# Altium integrated library Analog Devices MEMS Inertial Sensors.IntLib: 109 symbols (part 1 of 6)
Pins are listed as number, name and electrical type; pins without a type are passive.

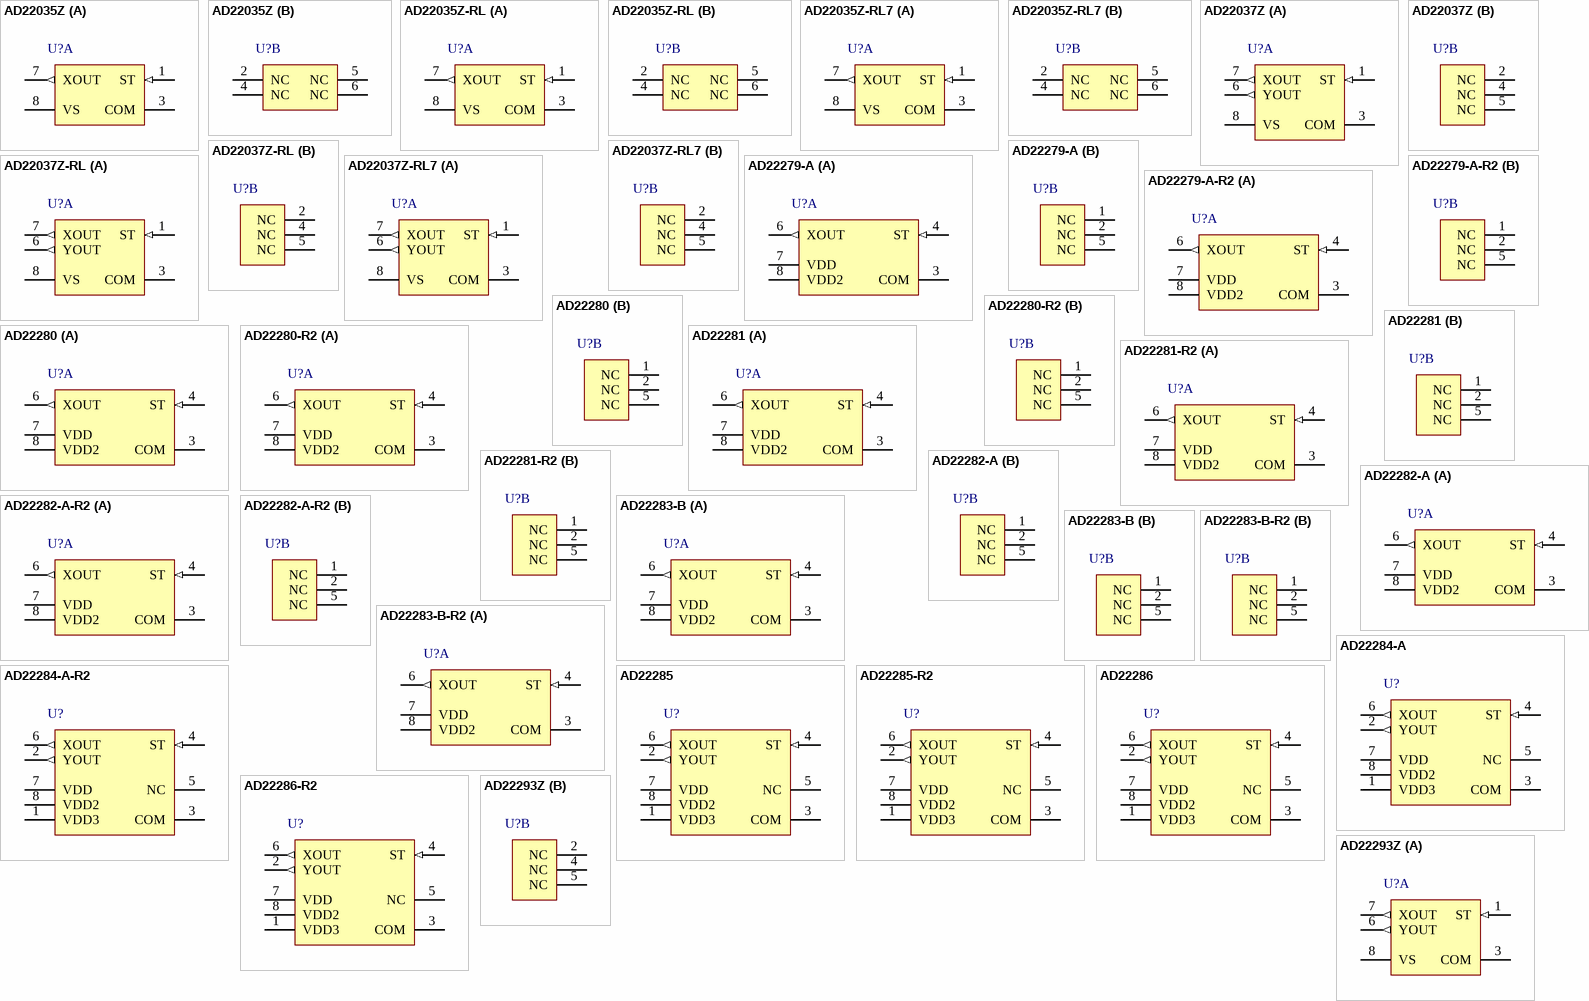
[diagram p0: symbols AD22035Z to AD22293Z]

## AD22035Z
designator U?
Precision +/-18 g Single-Axis iMEMS(R) Accelerometer with Analog Output, 2.5 KHz BW, Industrial, 8-pin LCC, Tube; Manufacturer: Analog Devices; PartNumber: AD22035Z; # of Axes: 1; -3dB Bandwidth: 2.5 KHz; Automotive Qualified: Yes; Sensitivity: 100 mV/g; Supply Current: 700 uA; Voltage Supply (V): 3 to 6; DatasheetVersion: Rev. D; PackageVersion: 05-21-2010-D, 05/2010; PackageReference: E-8-1; PackageDescription: 8-Pin Ceramic Leadless Chip Carrier, 5 x 5 mm Body, 1.27 mm Pitch; Supplier 1: Digi-Key; Supplier Part Number 1: AD22035Z-ND; Supplier 2: Newark; Supplier Part Number 2: 47T4693; Supplier 3: Mouser; Supplier Part Number 3: 584-AD22035Z; Output Type: Analog; Packing: Tube; Mounting Technology: Surface Mount; ComponentLink1Description: Manufacturer URL; ComponentLink1URL: http://www.analog.com/en/index.html; ComponentLink2Description: Datasheet; ComponentLink2URL: http://www.analog.com/static/imported-files/data_sheets/ADXL103_203.pdf; ComponentLink3Description: Package Specification; ComponentLink3URL: http:/www.analog.com/static/imported-files/packages/PKG_PDF/LCC(E)/E_8_1.pdf; ComponentLink4Description: Product URL; ComponentLink4URL: http://www.analog.com/en/mems-sensors/mems-inertial-sensors/adxl103/products/product.html
footprint ADI-E-8-1_V (LCC, 8-Leads, Body 5x5mm, Pitch 1.27mm)
part A pins: 1 ST (in) "Self Test", 3 COM (power) "Common", 7 XOUT (out) "X Channel Output", 8 VS (power) "3 V to 6 V"
part B pins: 2 NC "Do Not Connect", 4 NC "Do Not Connect", 5 NC "Do Not Connect", 6 NC "Do Not Connect"

## AD22035Z-RL
designator U?
Precision +/-18 g Single-Axis iMEMS(R) Accelerometer with Analog Output, 2.5 KHz BW, Industrial, 8-pin LCC, Reel; Manufacturer: Analog Devices; PartNumber: AD22035Z-RL; # of Axes: 1; -3dB Bandwidth: 2.5 KHz; Automotive Qualified: Yes; Sensitivity: 100 mV/g; Supply Current: 700 uA; Voltage Supply (V): 3 to 6; DatasheetVersion: Rev. D; PackageVersion: 05-21-2010-D, 05/2010; PackageReference: E-8-1; PackageDescription: 8-Pin Ceramic Leadless Chip Carrier, 5 x 5 mm Body, 1.27 mm Pitch; Supplier 1: Digi-Key; Supplier Part Number 1: AD22035Z-RL-ND; Supplier 2: Mouser; Supplier Part Number 2: 584-AD22035Z-R; Output Type: Analog; Packing: Reel; Mounting Technology: Surface Mount; ComponentLink1Description: Manufacturer URL; ComponentLink1URL: http://www.analog.com/en/index.html; ComponentLink2Description: Datasheet; ComponentLink2URL: http://www.analog.com/static/imported-files/data_sheets/ADXL103_203.pdf; ComponentLink3Description: Package Specification; ComponentLink3URL: http:/www.analog.com/static/imported-files/packages/PKG_PDF/LCC(E)/E_8_1.pdf; ComponentLink4Description: Product URL; ComponentLink4URL: http://www.analog.com/en/mems-sensors/mems-inertial-sensors/adxl103/products/product.html
footprint ADI-E-8-1_V (LCC, 8-Leads, Body 5x5mm, Pitch 1.27mm)
part A pins: 1 ST (in) "Self Test", 3 COM (power) "Common", 7 XOUT (out) "X Channel Output", 8 VS (power) "3 V to 6 V"
part B pins: 2 NC "Do Not Connect", 4 NC "Do Not Connect", 5 NC "Do Not Connect", 6 NC "Do Not Connect"

## AD22035Z-RL7
designator U?
Precision +/-18 g Single-Axis iMEMS(R) Accelerometer with Analog Output, 2.5 KHz BW, Industrial, 8-pin LCC, Reel; Manufacturer: Analog Devices; PartNumber: AD22035Z-RL7; # of Axes: 1; -3dB Bandwidth: 2.5 KHz; Automotive Qualified: Yes; Sensitivity: 100 mV/g; Supply Current: 700 uA; Voltage Supply (V): 3 to 6; DatasheetVersion: Rev. D; PackageVersion: 05-21-2010-D, 05/2010; PackageReference: E-8-1; PackageDescription: 8-Pin Ceramic Leadless Chip Carrier, 5 x 5 mm Body, 1.27 mm Pitch; Supplier 1: Digi-Key; Supplier Part Number 1: AD22035Z-RL7-ND; Supplier 2: Mouser; Supplier Part Number 2: 584-AD22035Z-R7; Output Type: Analog; Packing: Reel; Mounting Technology: Surface Mount; ComponentLink1Description: Manufacturer URL; ComponentLink1URL: http://www.analog.com/en/index.html; ComponentLink2Description: Datasheet; ComponentLink2URL: http://www.analog.com/static/imported-files/data_sheets/ADXL103_203.pdf; ComponentLink3Description: Package Specification; ComponentLink3URL: http:/www.analog.com/static/imported-files/packages/PKG_PDF/LCC(E)/E_8_1.pdf; ComponentLink4Description: Product URL; ComponentLink4URL: http://www.analog.com/en/mems-sensors/mems-inertial-sensors/adxl103/products/product.html
footprint ADI-E-8-1_V (LCC, 8-Leads, Body 5x5mm, Pitch 1.27mm)
part A pins: 1 ST (in) "Self Test", 3 COM (power) "Common", 7 XOUT (out) "X Channel Output", 8 VS (power) "3 V to 6 V"
part B pins: 2 NC "Do Not Connect", 4 NC "Do Not Connect", 5 NC "Do Not Connect", 6 NC "Do Not Connect"

## AD22037Z
designator U?
Precision +/-18 g Dual-Axis iMEMS(R) Accelerometer with Analog Output, 2.5KHz BW, Industrial, 8-pin LCC, Tube; Manufacturer: Analog Devices; PartNumber: AD22037Z; # of Axes: 2; Sensitivity: 100 mV/g; Supply Current: 700 uA; Voltage Supply (V): 3 to 6; DatasheetVersion: Rev. D; PackageVersion: 05-21-2010-D, 05/2010; PackageReference: E-8-1; PackageDescription: 8-Pin Ceramic Leadless Chip Carrier, 5 x 5 mm Body, 1.27 mm Pitch; Supplier 1: Digi-Key; Supplier Part Number 1: AD22037Z-ND; Supplier 2: Newark; Supplier Part Number 2: 67T0289; Supplier 3: Mouser; Supplier Part Number 3: 584-AD22037Z; -3dB Bandwidth: 2.5 KHz; Output Type: Analog; Packing: Tube; Mounting Technology: Surface Mount; ComponentLink1Description: Manufacturer URL; ComponentLink1URL: http://www.analog.com/en/index.html; ComponentLink2Description: Datasheet; ComponentLink2URL: http://www.analog.com/static/imported-files/data_sheets/ADXL103_203.pdf; ComponentLink3Description: Package Specification; ComponentLink3URL: http:/www.analog.com/static/imported-files/packages/PKG_PDF/LCC(E)/E_8_1.pdf; ComponentLink4Description: Product URL; ComponentLink4URL: http://www.analog.com/en/mems-sensors/mems-inertial-sensors/adxl203/products/product.html
footprint ADI-E-8-1_V (LCC, 8-Leads, Body 5x5mm, Pitch 1.27mm)
part A pins: 1 ST (in) "Self Test", 3 COM (power) "Common", 6 YOUT (out) "Y Channel Output", 7 XOUT (out) "X Channel Output", 8 VS (power) "3 V to 6 V"
part B pins: 2 NC "Do Not Connect", 4 NC "Do Not Connect", 5 NC "Do Not Connect"

## AD22037Z-RL
designator U?
Precision +/-18 g Dual-Axis iMEMS(R) Accelerometer with Analog Output, 2.5 KHz BW, Industrial, 8-pin LCC, Reel; Manufacturer: Analog Devices; PartNumber: AD22037Z-RL; # of Axes: 2; -3dB Bandwidth: 2.5 KHz; Sensitivity: 100 mV/g; Supply Current: 700 uA; Voltage Supply (V): 3 to 6; DatasheetVersion: Rev. D; PackageVersion: 05-21-2010-D, 05/2010; PackageReference: E-8-1; PackageDescription: 8-Pin Ceramic Leadless Chip Carrier, 5 x 5 mm Body, 1.27 mm Pitch; Supplier 1: Digi-Key; Supplier Part Number 1: AD22037Z-RL-ND; Supplier 2: Newark; Supplier Part Number 2: 45T0219; Supplier 3: Mouser; Supplier Part Number 3: 584-AD22037Z-R; Output Type: Analog; Packing: Reel; Mounting Technology: Surface Mount; ComponentLink1Description: Manufacturer URL; ComponentLink1URL: http://www.analog.com/en/index.html; ComponentLink2Description: Datasheet; ComponentLink2URL: http://www.analog.com/static/imported-files/data_sheets/ADXL103_203.pdf; ComponentLink3Description: Package Specification; ComponentLink3URL: http:/www.analog.com/static/imported-files/packages/PKG_PDF/LCC(E)/E_8_1.pdf; ComponentLink4Description: Product URL; ComponentLink4URL: http://www.analog.com/en/mems-sensors/mems-inertial-sensors/adxl203/products/product.html
footprint ADI-E-8-1_V (LCC, 8-Leads, Body 5x5mm, Pitch 1.27mm)
part A pins: 1 ST (in) "Self Test", 3 COM (power) "Common", 6 YOUT (out) "Y Channel Output", 7 XOUT (out) "X Channel Output", 8 VS (power) "3 V to 6 V"
part B pins: 2 NC "Do Not Connect", 4 NC "Do Not Connect", 5 NC "Do Not Connect"

## AD22037Z-RL7
designator U?
Precision +/-18 g Dual-Axis iMEMS(R) Accelerometer with Analog Output, 2.5 KHz BW, Industrial, 8-pin LCC, Reel; Manufacturer: Analog Devices; PartNumber: AD22037Z-RL7; # of Axes: 2; -3dB Bandwidth: 2.5 KHz; Sensitivity: 100 mV/g; Supply Current: 700 uA; Voltage Supply (V): 3 to 6; DatasheetVersion: Rev. D; PackageVersion: 05-21-2010-D, 05/2010; PackageReference: E-8-1; PackageDescription: 8-Pin Ceramic Leadless Chip Carrier, 5 x 5 mm Body, 1.27 mm Pitch; Supplier 1: Digi-Key; Supplier Part Number 1: AD22037Z-RL7-ND; Supplier 2: Newark; Supplier Part Number 2: 45T0220; Supplier 3: Mouser; Supplier Part Number 3: 584-AD22037Z-R7; Output Type: Analog; Packing: Reel; Mounting Technology: Surface Mount; ComponentLink1Description: Manufacturer URL; ComponentLink1URL: http://www.analog.com/en/index.html; ComponentLink2Description: Datasheet; ComponentLink2URL: http://www.analog.com/static/imported-files/data_sheets/ADXL103_203.pdf; ComponentLink3Description: Package Specification; ComponentLink3URL: http:/www.analog.com/static/imported-files/packages/PKG_PDF/LCC(E)/E_8_1.pdf; ComponentLink4Description: Product URL; ComponentLink4URL: http://www.analog.com/en/mems-sensors/mems-inertial-sensors/adxl203/products/product.html
footprint ADI-E-8-1_V (LCC, 8-Leads, Body 5x5mm, Pitch 1.27mm)
part A pins: 1 ST (in) "Self Test", 3 COM (power) "Common", 6 YOUT (out) "Y Channel Output", 7 XOUT (out) "X Channel Output", 8 VS (power) "3 V to 6 V"
part B pins: 2 NC "Do Not Connect", 4 NC "Do Not Connect", 5 NC "Do Not Connect"

## AD22279-A
designator U?
Single-Axis, High-g, iMEMS(R) Accelerometers with Analog Output, 400 Hz BW, Industrial, 8-pin LCC, Reel; Manufacturer: Analog Devices; PartNumber: AD22279-A; # of Axes: 1; -3dB Bandwidth: 400 Hz; Automotive Qualified: Yes; Sensitivity: 55 mV/g; Supply Current: 1.3 mA; Voltage Supply (V): 4.75 to 5.25; DatasheetVersion: Rev. B; PackageVersion: 05-21-2010-D, 05/2010; PackageReference: E-8-1; PackageDescription: 8-Pin Ceramic Leadless Chip Carrier, 5 x 5 mm Body, 1.27 mm Pitch; Supplier 1: Digi-Key; Supplier Part Number 1: AD22279-A-ND; Supplier 2: Mouser; Supplier Part Number 2: 584-AD22279-A; Output Type: Analog; Packing: Reel; Mounting Technology: Surface Mount; ComponentLink1Description: Manufacturer URL; ComponentLink1URL: http://www.analog.com/en/index.html; ComponentLink2Description: Datasheet; ComponentLink2URL: http://www.analog.com/static/imported-files/data_sheets/ADXL78.pdf; ComponentLink3Description: Package Specification; ComponentLink3URL: http:/www.analog.com/static/imported-files/packages/PKG_PDF/LCC(E)/E_8_1.pdf; ComponentLink4Description: Product URL; ComponentLink4URL: http://www.analog.com/en/mems-sensors/mems-inertial-sensors/adxl78/products/product.html
footprint ADI-E-8-1_V (LCC, 8-Leads, Body 5x5mm, Pitch 1.27mm)
part A pins: 3 COM (power) "Common", 4 ST (in) "Self-Test", 6 XOUT (out) "X Channel Output", 7 VDD (power) "3.5 V to 6 V", 8 VDD2 (power) "3.5 V to 6 V"
part B pins: 1 NC "Do Not Connect", 2 NC "Do Not Connect", 5 NC "Do Not Connect"

## AD22279-A-R2
designator U?
Single-Axis, High-g, iMEMS(R) Accelerometers with Analog Output, 400 Hz BW, Industrial, 8-pin LCC, Reel; Manufacturer: Analog Devices; PartNumber: AD22279-A-R2; # of Axes: 1; -3dB Bandwidth: 400 Hz; Automotive Qualified: Yes; Sensitivity: 55 mV/g; Supply Current: 1.3 mA; Voltage Supply (V): 4.75 to 5.25; DatasheetVersion: Rev. B; PackageVersion: 05-21-2010-D, 05/2010; PackageReference: E-8-1; PackageDescription: 8-Pin Ceramic Leadless Chip Carrier, 5 x 5 mm Body, 1.27 mm Pitch; Supplier 1: Digi-Key; Supplier Part Number 1: AD22279-A-R2TR-ND; Supplier 2: Digi-Key; Supplier Part Number 2: AD22279-A-R2CT-ND; Supplier 3: Digi-Key; Supplier Part Number 3: AD22279-A-R2DKR-ND; Supplier 4: Farnell; Supplier Part Number 4: 2112637; Supplier 5: Newark; Supplier Part Number 5: 19M8800; Supplier 6: Mouser; Supplier Part Number 6: 584-AD22279-A-R2; Output Type: Analog; Packing: Reel; Mounting Technology: Surface Mount; ComponentLink1Description: Manufacturer URL; ComponentLink1URL: http://www.analog.com/en/index.html; ComponentLink2Description: Datasheet; ComponentLink2URL: http://www.analog.com/static/imported-files/data_sheets/ADXL78.pdf; ComponentLink3Description: Package Specification; ComponentLink3URL: http:/www.analog.com/static/imported-files/packages/PKG_PDF/LCC(E)/E_8_1.pdf; ComponentLink4Description: Product URL; ComponentLink4URL: http://www.analog.com/en/mems-sensors/mems-inertial-sensors/adxl78/products/product.html
footprint ADI-E-8-1_V (LCC, 8-Leads, Body 5x5mm, Pitch 1.27mm)
part A pins: 3 COM (power) "Common", 4 ST (in) "Self-Test", 6 XOUT (out) "X Channel Output", 7 VDD (power) "3.5 V to 6 V", 8 VDD2 (power) "3.5 V to 6 V"
part B pins: 1 NC "Do Not Connect", 2 NC "Do Not Connect", 5 NC "Do Not Connect"

## AD22280
designator U?
Single-Axis, High-g, iMEMS(R) Accelerometers with Analog Output, 400 Hz BW, Industrial, 8-pin LCC, Reel; Manufacturer: Analog Devices; PartNumber: AD22280; # of Axes: 1; -3dB Bandwidth: 400 Hz; Automotive Qualified: Yes; Sensitivity: 38 mV/g; Supply Current: 1.3 mA; Voltage Supply (V): 4.75 to 5.25; DatasheetVersion: Rev. B; PackageVersion: 05-21-2010-D, 05/2010; PackageReference: E-8-1; PackageDescription: 8-Pin Ceramic Leadless Chip Carrier, 5 x 5 mm Body, 1.27 mm Pitch; Supplier 1: Digi-Key; Supplier Part Number 1: AD22280-ND; Supplier 2: Mouser; Supplier Part Number 2: 584-AD22280; Output Type: Analog; Packing: Reel; Mounting Technology: Surface Mount; ComponentLink1Description: Manufacturer URL; ComponentLink1URL: http://www.analog.com/en/index.html; ComponentLink2Description: Datasheet; ComponentLink2URL: http://www.analog.com/static/imported-files/data_sheets/ADXL78.pdf; ComponentLink3Description: Package Specification; ComponentLink3URL: http:/www.analog.com/static/imported-files/packages/PKG_PDF/LCC(E)/E_8_1.pdf; ComponentLink4Description: Product URL; ComponentLink4URL: http://www.analog.com/en/mems-sensors/mems-inertial-sensors/adxl78/products/product.html
footprint ADI-E-8-1_V (LCC, 8-Leads, Body 5x5mm, Pitch 1.27mm)
part A pins: 3 COM (power) "Common", 4 ST (in) "Self-Test", 6 XOUT (out) "X Channel Output", 7 VDD (power) "3.5 V to 6 V", 8 VDD2 (power) "3.5 V to 6 V"
part B pins: 1 NC "Do Not Connect", 2 NC "Do Not Connect", 5 NC "Do Not Connect"

## AD22280-R2
designator U?
Single-Axis, High-g, iMEMS(R) Accelerometers with Analog Output, 400 Hz BW, Industrial, 8-pin LCC, Reel; Manufacturer: Analog Devices; PartNumber: AD22280-R2; # of Axes: 1; -3dB Bandwidth: 400 Hz; Automotive Qualified: Yes; Sensitivity: 38 mV/g; Supply Current: 1.3 mA; Voltage Supply (V): 4.75 to 5.25; DatasheetVersion: Rev. B; PackageVersion: 05-21-2010-D, 05/2010; PackageReference: E-8-1; PackageDescription: 8-Pin Ceramic Leadless Chip Carrier, 5 x 5 mm Body, 1.27 mm Pitch; Supplier 1: Digi-Key; Supplier Part Number 1: AD22280-R2TR-ND; Supplier 2: Digi-Key; Supplier Part Number 2: AD22280-R2CT-ND; Supplier 3: Digi-Key; Supplier Part Number 3: AD22280-R2DKR-ND; Supplier 4: Farnell; Supplier Part Number 4: 1319363; Supplier 5: Newark; Supplier Part Number 5: 19M8801; Supplier 6: Mouser; Supplier Part Number 6: 584-AD22280-R2; Output Type: Analog; Packing: Reel; Mounting Technology: Surface Mount; ComponentLink1Description: Manufacturer URL; ComponentLink1URL: http://www.analog.com/en/index.html; ComponentLink2Description: Datasheet; ComponentLink2URL: http://www.analog.com/static/imported-files/data_sheets/ADXL78.pdf; ComponentLink3Description: Package Specification; ComponentLink3URL: http:/www.analog.com/static/imported-files/packages/PKG_PDF/LCC(E)/E_8_1.pdf; ComponentLink4Description: Product URL; ComponentLink4URL: http://www.analog.com/en/mems-sensors/mems-inertial-sensors/adxl78/products/product.html
footprint ADI-E-8-1_V (LCC, 8-Leads, Body 5x5mm, Pitch 1.27mm)
part A pins: 3 COM (power) "Common", 4 ST (in) "Self-Test", 6 XOUT (out) "X Channel Output", 7 VDD (power) "3.5 V to 6 V", 8 VDD2 (power) "3.5 V to 6 V"
part B pins: 1 NC "Do Not Connect", 2 NC "Do Not Connect", 5 NC "Do Not Connect"

## AD22281
designator U?
Single-Axis, High-g, iMEMS(R) Accelerometers with Analog Output, 400 Hz BW, Industrial, 8-pin LCC, Reel; Manufacturer: Analog Devices; PartNumber: AD22281; # of Axes: 1; -3dB Bandwidth: 400 Hz; Automotive Qualified: Yes; Sensitivity: 27 mV/g; Supply Current: 1.3 mA; Voltage Supply (V): 4.75 to 5.25; DatasheetVersion: Rev. B; PackageVersion: 05-21-2010-D, 05/2010; PackageReference: E-8-1; PackageDescription: 8-Pin Ceramic Leadless Chip Carrier, 5 x 5 mm Body, 1.27 mm Pitch; Supplier 1: Digi-Key; Supplier Part Number 1: AD22281-ND; Supplier 2: Mouser; Supplier Part Number 2: 584-AD22281; Output Type: Analog; Packing: Reel; Mounting Technology: Surface Mount; ComponentLink1Description: Manufacturer URL; ComponentLink1URL: http://www.analog.com/en/index.html; ComponentLink2Description: Datasheet; ComponentLink2URL: http://www.analog.com/static/imported-files/data_sheets/ADXL78.pdf; ComponentLink3Description: Package Specification; ComponentLink3URL: http:/www.analog.com/static/imported-files/packages/PKG_PDF/LCC(E)/E_8_1.pdf; ComponentLink4Description: Product URL; ComponentLink4URL: http://www.analog.com/en/mems-sensors/mems-inertial-sensors/adxl78/products/product.html
footprint ADI-E-8-1_V (LCC, 8-Leads, Body 5x5mm, Pitch 1.27mm)
part A pins: 3 COM (power) "Common", 4 ST (in) "Self-Test", 6 XOUT (out) "X Channel Output", 7 VDD (power) "3.5 V to 6 V", 8 VDD2 (power) "3.5 V to 6 V"
part B pins: 1 NC "Do Not Connect", 2 NC "Do Not Connect", 5 NC "Do Not Connect"

## AD22281-R2
designator U?
Single-Axis, High-g, iMEMS(R) Accelerometers with Analog Output, 400 Hz BW, Industrial, 8-pin LCC, Reel; Manufacturer: Analog Devices; PartNumber: AD22281-R2; # of Axes: 1; -3dB Bandwidth: 400 Hz; Automotive Qualified: Yes; Sensitivity: 27 mV/g; Supply Current: 1.3 mA; Voltage Supply (V): 4.75 to 5.25; DatasheetVersion: Rev. B; PackageVersion: 05-21-2010-D, 05/2010; PackageReference: E-8-1; PackageDescription: 8-Pin Ceramic Leadless Chip Carrier, 5 x 5 mm Body, 1.27 mm Pitch; Supplier 1: Digi-Key; Supplier Part Number 1: AD22281-R2TR-ND; Supplier 2: Digi-Key; Supplier Part Number 2: AD22281-R2CT-ND; Supplier 3: Digi-Key; Supplier Part Number 3: AD22281-R2DKR-ND; Supplier 4: Newark; Supplier Part Number 4: 59K3516; Supplier 5: Newark; Supplier Part Number 5: 19M8802; Supplier 6: Mouser; Supplier Part Number 6: 584-AD22281-R2; Output Type: Analog; Packing: Reel; Mounting Technology: Surface Mount; ComponentLink1Description: Manufacturer URL; ComponentLink1URL: http://www.analog.com/en/index.html; ComponentLink2Description: Datasheet; ComponentLink2URL: http://www.analog.com/static/imported-files/data_sheets/ADXL78.pdf; ComponentLink3Description: Package Specification; ComponentLink3URL: http:/www.analog.com/static/imported-files/packages/PKG_PDF/LCC(E)/E_8_1.pdf; ComponentLink4Description: Product URL; ComponentLink4URL: http://www.analog.com/en/mems-sensors/mems-inertial-sensors/adxl78/products/product.html
footprint ADI-E-8-1_V (LCC, 8-Leads, Body 5x5mm, Pitch 1.27mm)
part A pins: 3 COM (power) "Common", 4 ST (in) "Self-Test", 6 XOUT (out) "X Channel Output", 7 VDD (power) "3.5 V to 6 V", 8 VDD2 (power) "3.5 V to 6 V"
part B pins: 1 NC "Do Not Connect", 2 NC "Do Not Connect", 5 NC "Do Not Connect"

## AD22282-A
designator U?
Single-Axis, High-g, iMEMS(R) Accelerometer with Analog Output, 400 Hz BW, Industrial, 8-pin LCC, Reel; Manufacturer: Analog Devices; PartNumber: AD22282-A; # of Axes: 1; -3dB Bandwidth: 400 Hz; Automotive Qualified: Yes; Sensitivity: 18 mV/g; Supply Current: 1.5 mA; Voltage Supply (V): 4.75 to 5.25; DatasheetVersion: Rev. B; PackageVersion: 05-21-2010-D, 05/2010; PackageReference: E-8-1; PackageDescription: 8-Pin Ceramic Leadless Chip Carrier, 5 x 5 mm Body, 1.27 mm Pitch; Supplier 1: Digi-Key; Supplier Part Number 1: AD22282-A-ND; Supplier 2: Mouser; Supplier Part Number 2: 584-AD22282-A; Output Type: Analog; Packing: Reel; Mounting Technology: Surface Mount; ComponentLink1Description: Manufacturer URL; ComponentLink1URL: http://www.analog.com/en/index.html; ComponentLink2Description: Datasheet; ComponentLink2URL: http://www.analog.com/static/imported-files/data_sheets/ADXL193.pdf; ComponentLink3Description: Package Specification; ComponentLink3URL: http:/www.analog.com/static/imported-files/packages/PKG_PDF/LCC(E)/E_8_1.pdf; ComponentLink4Description: Product URL; ComponentLink4URL: http://www.analog.com/en/mems-sensors/mems-inertial-sensors/adxl193/products/product.html
footprint ADI-E-8-1_V (LCC, 8-Leads, Body 5x5mm, Pitch 1.27mm)
part A pins: 3 COM (power) "Common", 4 ST (in) "Self-Test", 6 XOUT (out) "X Channel Output", 7 VDD (power) "3.5 V to 6 V", 8 VDD2 (power) "3.5 V to 6 V"
part B pins: 1 NC "Do Not Connect", 2 NC "Do Not Connect", 5 NC "Do Not Connect"

## AD22282-A-R2
designator U?
Single-Axis, High-g, iMEMS(R) Accelerometer with Analog Output, 400 Hz BW, Industrial, 8-pin LCC, Reel; Manufacturer: Analog Devices; PartNumber: AD22282-A-R2; # of Axes: 1; -3dB Bandwidth: 400 Hz; Automotive Qualified: Yes; Sensitivity: 18 mV/g; Supply Current: 1.5 mA; Voltage Supply (V): 4.75 to 5.25; DatasheetVersion: Rev. B; PackageVersion: 05-21-2010-D, 05/2010; PackageReference: E-8-1; PackageDescription: 8-Pin Ceramic Leadless Chip Carrier, 5 x 5 mm Body, 1.27 mm Pitch; Supplier 1: Digi-Key; Supplier Part Number 1: AD22282-A-R2TR-ND; Supplier 2: Digi-Key; Supplier Part Number 2: AD22282-A-R2CT-ND; Supplier 3: Digi-Key; Supplier Part Number 3: AD22282-A-R2DKR-ND; Supplier 4: Newark; Supplier Part Number 4: 59K3517; Supplier 5: Newark; Supplier Part Number 5: 19M8803; Supplier 6: Mouser; Supplier Part Number 6: 584-AD22282-A-R2; Output Type: Analog; Packing: Reel; Mounting Technology: Surface Mount; ComponentLink1Description: Manufacturer URL; ComponentLink1URL: http://www.analog.com/en/index.html; ComponentLink2Description: Datasheet; ComponentLink2URL: http://www.analog.com/static/imported-files/data_sheets/ADXL193.pdf; ComponentLink3Description: Package Specification; ComponentLink3URL: http:/www.analog.com/static/imported-files/packages/PKG_PDF/LCC(E)/E_8_1.pdf; ComponentLink4Description: Product URL; ComponentLink4URL: http://www.analog.com/en/mems-sensors/mems-inertial-sensors/adxl193/products/product.html
footprint ADI-E-8-1_V (LCC, 8-Leads, Body 5x5mm, Pitch 1.27mm)
part A pins: 3 COM (power) "Common", 4 ST (in) "Self-Test", 6 XOUT (out) "X Channel Output", 7 VDD (power) "3.5 V to 6 V", 8 VDD2 (power) "3.5 V to 6 V"
part B pins: 1 NC "Do Not Connect", 2 NC "Do Not Connect", 5 NC "Do Not Connect"

## AD22283-B
designator U?
Single-Axis, High-g, iMEMS(R) Accelerometer with Analog Output, 400 Hz BW, Industrial, 8-pin LCC, Reel; Manufacturer: Analog Devices; PartNumber: AD22283-B; # of Axes: 1; -3dB Bandwidth: 400 Hz; Automotive Qualified: Yes; Sensitivity: 8 mV/g; Supply Current: 1.5 mA; Voltage Supply (V): 4.75 to 5.25; DatasheetVersion: Rev. B; PackageVersion: 05-21-2010-D, 05/2010; PackageReference: E-8-1; PackageDescription: 8-Pin Ceramic Leadless Chip Carrier, 5 x 5 mm Body, 1.27 mm Pitch; Supplier 1: Digi-Key; Supplier Part Number 1: AD22283-B-ND; Supplier 2: Mouser; Supplier Part Number 2: 584-AD22283-B; Output Type: Analog; Packing: Reel; Mounting Technology: Surface Mount; ComponentLink1Description: Manufacturer URL; ComponentLink1URL: http://www.analog.com/en/index.html; ComponentLink2Description: Datasheet; ComponentLink2URL: http://www.analog.com/static/imported-files/data_sheets/ADXL193.pdf; ComponentLink3Description: Package Specification; ComponentLink3URL: http:/www.analog.com/static/imported-files/packages/PKG_PDF/LCC(E)/E_8_1.pdf; ComponentLink4Description: Product URL; ComponentLink4URL: http://www.analog.com/en/mems-sensors/mems-inertial-sensors/adxl193/products/product.html
footprint ADI-E-8-1_V (LCC, 8-Leads, Body 5x5mm, Pitch 1.27mm)
part A pins: 3 COM (power) "Common", 4 ST (in) "Self-Test", 6 XOUT (out) "X Channel Output", 7 VDD (power) "3.5 V to 6 V", 8 VDD2 (power) "3.5 V to 6 V"
part B pins: 1 NC "Do Not Connect", 2 NC "Do Not Connect", 5 NC "Do Not Connect"

## AD22283-B-R2
designator U?
Single-Axis, High-g, iMEMS(R) Accelerometer with Analog Output, 400 Hz BW, Industrial, 8-pin LCC, Reel; Manufacturer: Analog Devices; PartNumber: AD22283-B-R2; # of Axes: 1; -3dB Bandwidth: 400 Hz; Automotive Qualified: Yes; Sensitivity: 8 mV/g; Supply Current: 1.5 mA; Voltage Supply (V): 4.75 to 5.25; DatasheetVersion: Rev. B; PackageVersion: 05-21-2010-D, 05/2010; PackageReference: E-8-1; PackageDescription: 8-Pin Ceramic Leadless Chip Carrier, 5 x 5 mm Body, 1.27 mm Pitch; Supplier 1: Digi-Key; Supplier Part Number 1: AD22283-B-R2TR-ND; Supplier 2: Digi-Key; Supplier Part Number 2: AD22283-B-R2CT-ND; Supplier 3: Digi-Key; Supplier Part Number 3: AD22283-B-R2DKR-ND; Supplier 4: Farnell; Supplier Part Number 4: 2102498; Supplier 5: Newark; Supplier Part Number 5: 19M8804; Supplier 6: Mouser; Supplier Part Number 6: 584-AD22283-B-R2; Output Type: Analog; Packing: Reel; Mounting Technology: Surface Mount; ComponentLink1Description: Manufacturer URL; ComponentLink1URL: http://www.analog.com/en/index.html; ComponentLink2Description: Datasheet; ComponentLink2URL: http://www.analog.com/static/imported-files/data_sheets/ADXL193.pdf; ComponentLink3Description: Package Specification; ComponentLink3URL: http:/www.analog.com/static/imported-files/packages/PKG_PDF/LCC(E)/E_8_1.pdf; ComponentLink4Description: Product URL; ComponentLink4URL: http://www.analog.com/en/mems-sensors/mems-inertial-sensors/adxl193/products/product.html
footprint ADI-E-8-1_V (LCC, 8-Leads, Body 5x5mm, Pitch 1.27mm)
part A pins: 3 COM (power) "Common", 4 ST (in) "Self-Test", 6 XOUT (out) "X Channel Output", 7 VDD (power) "3.5 V to 6 V", 8 VDD2 (power) "3.5 V to 6 V"
part B pins: 1 NC "Do Not Connect", 2 NC "Do Not Connect", 5 NC "Do Not Connect"

## AD22284-A
designator U?
Small, Low Power, Dual-Axis High-g, iMEMS(R) Accelerometer with Analog Output, 400 Hz BW, Industrial, 8-pin LCC, Reel; Manufacturer: Analog Devices; PartNumber: AD22284-A; # of Axes: 2; -3dB Bandwidth: 400 Hz; Automotive Qualified: Yes; Sensitivity: 55 mV/g; Supply Current: 2.2 mA; Voltage Supply (V): 4.75 to 5.25; DatasheetVersion: Rev. B; PackageVersion: 05-21-2010-D, 05/2010; PackageReference: E-8-1; PackageDescription: 8-Pin Ceramic Leadless Chip Carrier, 5 x 5 mm Body, 1.27 mm Pitch; Supplier 1: Mouser; Supplier Part Number 1: N/A; Output Type: Analog; Packing: Reel; Mounting Technology: Surface Mount; ComponentLink1Description: Manufacturer URL; ComponentLink1URL: http://www.analog.com/en/index.html; ComponentLink2Description: Datasheet; ComponentLink2URL: http://www.analog.com/static/imported-files/data_sheets/ADXL278.pdf; ComponentLink3Description: Package Specification; ComponentLink3URL: http:/www.analog.com/static/imported-files/packages/PKG_PDF/LCC(E)/E_8_1.pdf; ComponentLink4Description: Product URL; ComponentLink4URL: http://www.analog.com/en/mems-sensors/mems-inertial-sensors/adxl278/products/product.html
footprint ADI-E-8-1_V (LCC, 8-Leads, Body 5x5mm, Pitch 1.27mm)
pins: 1 VDD3 (power) "3.5 V to 6 V", 2 YOUT (out) "Y Channel Output", 3 COM (power) "Common", 4 ST (in) "Self-Test", 5 NC "Do Not Connect", 6 XOUT (out) "X Channel Output", 7 VDD (power) "3.5 V to 6 V", 8 VDD2 (power) "3.5 V to 6 V"

## AD22284-A-R2
designator U?
Small, Low Power, Dual-Axis High-g, iMEMS(R) Accelerometer with Analog Output, 400 Hz BW, Industrial, 8-pin LCC, Reel; Manufacturer: Analog Devices; PartNumber: AD22284-A-R2; # of Axes: 2; -3dB Bandwidth: 400 Hz; Automotive Qualified: Yes; Sensitivity: 55 mV/g; Supply Current: 2.2 mA; Voltage Supply (V): 4.75 to 5.25; DatasheetVersion: Rev. B; PackageVersion: 05-21-2010-D, 05/2010; PackageReference: E-8-1; PackageDescription: 8-Pin Ceramic Leadless Chip Carrier, 5 x 5 mm Body, 1.27 mm Pitch; Supplier 1: Digi-Key; Supplier Part Number 1: AD22284-A-R2TR-ND; Supplier 2: Digi-Key; Supplier Part Number 2: AD22284-A-R2CT-ND; Supplier 3: Digi-Key; Supplier Part Number 3: AD22284-A-R2DKR-ND; Supplier 4: Farnell; Supplier Part Number 4: 2301484; Supplier 5: Newark; Supplier Part Number 5: 19M8805; Supplier 6: Mouser; Supplier Part Number 6: 584-AD22284-A-R2; Output Type: Analog; Packing: Reel; Mounting Technology: Surface Mount; ComponentLink1Description: Manufacturer URL; ComponentLink1URL: http://www.analog.com/en/index.html; ComponentLink2Description: Datasheet; ComponentLink2URL: http://www.analog.com/static/imported-files/data_sheets/ADXL278.pdf; ComponentLink3Description: Package Specification; ComponentLink3URL: http:/www.analog.com/static/imported-files/packages/PKG_PDF/LCC(E)/E_8_1.pdf; ComponentLink4Description: Product URL; ComponentLink4URL: http://www.analog.com/en/mems-sensors/mems-inertial-sensors/adxl278/products/product.html
footprint ADI-E-8-1_V (LCC, 8-Leads, Body 5x5mm, Pitch 1.27mm)
pins: 1 VDD3 (power) "3.5 V to 6 V", 2 YOUT (out) "Y Channel Output", 3 COM (power) "Common", 4 ST (in) "Self-Test", 5 NC "Do Not Connect", 6 XOUT (out) "X Channel Output", 7 VDD (power) "3.5 V to 6 V", 8 VDD2 (power) "3.5 V to 6 V"

## AD22285
designator U?
Small, Low Power, Dual-Axis High-g, iMEMS(R) Accelerometer with Analog Output, 400 Hz BW, Industrial, 8-pin LCC, Reel; Manufacturer: Analog Devices; PartNumber: AD22285; # of Axes: 2; -3dB Bandwidth: 400 Hz; Automotive Qualified: Yes; Sensitivity: 38 mV/g; Supply Current: 2.2 mA; Voltage Supply (V): 4.75 to 5.25; DatasheetVersion: Rev. B; PackageVersion: 05-21-2010-D, 05/2010; PackageReference: E-8-1; PackageDescription: 8-Pin Ceramic Leadless Chip Carrier, 5 x 5 mm Body, 1.27 mm Pitch; Supplier 1: Digi-Key; Supplier Part Number 1: AD22285-ND; Supplier 2: Mouser; Supplier Part Number 2: 584-AD22285; Output Type: Analog; Packing: Reel; Mounting Technology: Surface Mount; ComponentLink1Description: Manufacturer URL; ComponentLink1URL: http://www.analog.com/en/index.html; ComponentLink2Description: Datasheet; ComponentLink2URL: http://www.analog.com/static/imported-files/data_sheets/ADXL278.pdf; ComponentLink3Description: Package Specification; ComponentLink3URL: http:/www.analog.com/static/imported-files/packages/PKG_PDF/LCC(E)/E_8_1.pdf; ComponentLink4Description: Product URL; ComponentLink4URL: http://www.analog.com/en/mems-sensors/mems-inertial-sensors/adxl278/products/product.html
footprint ADI-E-8-1_V (LCC, 8-Leads, Body 5x5mm, Pitch 1.27mm)
pins: 1 VDD3 (power) "3.5 V to 6 V", 2 YOUT (out) "Y Channel Output", 3 COM (power) "Common", 4 ST (in) "Self-Test", 5 NC "Do Not Connect", 6 XOUT (out) "X Channel Output", 7 VDD (power) "3.5 V to 6 V", 8 VDD2 (power) "3.5 V to 6 V"

## AD22285-R2
designator U?
Small, Low Power, Dual-Axis High-g, iMEMS(R) Accelerometer with Analog Output, 400 Hz BW, Industrial, 8-pin LCC, Reel; Manufacturer: Analog Devices; PartNumber: AD22285-R2; # of Axes: 2; -3dB Bandwidth: 400 Hz; Automotive Qualified: Yes; Sensitivity: 38 mV/g; Supply Current: 2.2 mA; Voltage Supply (V): 4.75 to 5.25; DatasheetVersion: Rev. B; PackageVersion: 05-21-2010-D, 05/2010; PackageReference: E-8-1; PackageDescription: 8-Pin Ceramic Leadless Chip Carrier, 5 x 5 mm Body, 1.27 mm Pitch; Supplier 1: Digi-Key; Supplier Part Number 1: AD22285-R2TR-ND; Supplier 2: Digi-Key; Supplier Part Number 2: AD22285-R2CT-ND; Supplier 3: Digi-Key; Supplier Part Number 3: AD22285-R2DKR-ND; Supplier 4: Farnell; Supplier Part Number 4: 1661083; Supplier 5: Newark; Supplier Part Number 5: 19M8806; Supplier 6: Newark; Supplier Part Number 6: 59K3520; Supplier 7: Mouser; Supplier Part Number 7: 584-AD22285-R2; Output Type: Analog; Packing: Reel; Mounting Technology: Surface Mount; ComponentLink1Description: Manufacturer URL; ComponentLink1URL: http://www.analog.com/en/index.html; ComponentLink2Description: Datasheet; ComponentLink2URL: http://www.analog.com/static/imported-files/data_sheets/ADXL278.pdf; ComponentLink3Description: Package Specification; ComponentLink3URL: http:/www.analog.com/static/imported-files/packages/PKG_PDF/LCC(E)/E_8_1.pdf; ComponentLink4Description: Product URL; ComponentLink4URL: http://www.analog.com/en/mems-sensors/mems-inertial-sensors/adxl278/products/product.html
footprint ADI-E-8-1_V (LCC, 8-Leads, Body 5x5mm, Pitch 1.27mm)
pins: 1 VDD3 (power) "3.5 V to 6 V", 2 YOUT (out) "Y Channel Output", 3 COM (power) "Common", 4 ST (in) "Self-Test", 5 NC "Do Not Connect", 6 XOUT (out) "X Channel Output", 7 VDD (power) "3.5 V to 6 V", 8 VDD2 (power) "3.5 V to 6 V"

## AD22286
designator U?
Small, Low Power, Dual-Axis High-g, iMEMS(R) Accelerometer with Analog Output, 400 Hz BW, Industrial, 8-pin LCC, Reel; Manufacturer: Analog Devices; PartNumber: AD22286; # of Axes: 2; -3dB Bandwidth: 400 Hz; Automotive Qualified: Yes; Sensitivity: 27 mV/g; Supply Current: 2.2 mA; Voltage Supply (V): 4.75 to 5.25; DatasheetVersion: Rev. B; PackageVersion: 05-21-2010-D, 05/2010; PackageReference: E-8-1; PackageDescription: 8-Pin Ceramic Leadless Chip Carrier, 5 x 5 mm Body, 1.27 mm Pitch; Supplier 1: Digi-Key; Supplier Part Number 1: AD22286-ND; Supplier 2: Mouser; Supplier Part Number 2: 584-AD22286; Output Type: Analog; Packing: Reel; Mounting Technology: Surface Mount; ComponentLink1Description: Manufacturer URL; ComponentLink1URL: http://www.analog.com/en/index.html; ComponentLink2Description: Datasheet; ComponentLink2URL: http://www.analog.com/static/imported-files/data_sheets/ADXL278.pdf; ComponentLink3Description: Package Specification; ComponentLink3URL: http:/www.analog.com/static/imported-files/packages/PKG_PDF/LCC(E)/E_8_1.pdf; ComponentLink4Description: Product URL; ComponentLink4URL: http://www.analog.com/en/mems-sensors/mems-inertial-sensors/adxl278/products/product.html
footprint ADI-E-8-1_V (LCC, 8-Leads, Body 5x5mm, Pitch 1.27mm)
pins: 1 VDD3 (power) "3.5 V to 6 V", 2 YOUT (out) "Y Channel Output", 3 COM (power) "Common", 4 ST (in) "Self-Test", 5 NC "Do Not Connect", 6 XOUT (out) "X Channel Output", 7 VDD (power) "3.5 V to 6 V", 8 VDD2 (power) "3.5 V to 6 V"

## AD22286-R2
designator U?
Small, Low Power, Dual-Axis High-g, iMEMS(R) Accelerometer with Analog Output, 400 Hz BW, Industrial, 8-pin LCC, Reel; Manufacturer: Analog Devices; PartNumber: AD22286-R2; # of Axes: 2; -3dB Bandwidth: 400 Hz; Automotive Qualified: Yes; Sensitivity: 27 mV/g; Supply Current: 2.2 mA; Voltage Supply (V): 4.75 to 5.25; DatasheetVersion: Rev. B; PackageVersion: 05-21-2010-D, 05/2010; PackageReference: E-8-1; PackageDescription: 8-Pin Ceramic Leadless Chip Carrier, 5 x 5 mm Body, 1.27 mm Pitch; Supplier 1: Digi-Key; Supplier Part Number 1: AD22286-R2TR-ND; Supplier 2: Digi-Key; Supplier Part Number 2: AD22286-R2CT-ND; Supplier 3: Digi-Key; Supplier Part Number 3: AD22286-R2DKR-ND; Supplier 4: Newark; Supplier Part Number 4: 59K3521; Supplier 5: Mouser; Supplier Part Number 5: 584-AD22286-R2; Output Type: Analog; Packing: Reel; Mounting Technology: Surface Mount; ComponentLink1Description: Manufacturer URL; ComponentLink1URL: http://www.analog.com/en/index.html; ComponentLink2Description: Datasheet; ComponentLink2URL: http://www.analog.com/static/imported-files/data_sheets/ADXL278.pdf; ComponentLink3Description: Package Specification; ComponentLink3URL: http:/www.analog.com/static/imported-files/packages/PKG_PDF/LCC(E)/E_8_1.pdf; ComponentLink4Description: Product URL; ComponentLink4URL: http://www.analog.com/en/mems-sensors/mems-inertial-sensors/adxl278/products/product.html
footprint ADI-E-8-1_V (LCC, 8-Leads, Body 5x5mm, Pitch 1.27mm)
pins: 1 VDD3 (power) "3.5 V to 6 V", 2 YOUT (out) "Y Channel Output", 3 COM (power) "Common", 4 ST (in) "Self-Test", 5 NC "Do Not Connect", 6 XOUT (out) "X Channel Output", 7 VDD (power) "3.5 V to 6 V", 8 VDD2 (power) "3.5 V to 6 V"

## AD22293Z
designator U?
Precision +/-5 g Dual-Axis iMEMS(R) Accelerometer with Analog Output, 2.5KHz BW, Industrial, 8-pin LCC, Tube; Manufacturer: Analog Devices; PartNumber: AD22293Z; # of Axes: 2; Sensitivity: 312 mV/g; Supply Current: 700 uA; Voltage Supply (V): 3 to 6; DatasheetVersion: Rev. D; PackageVersion: 05-21-2010-D, 05/2010; PackageReference: E-8-1; PackageDescription: 8-Pin Ceramic Leadless Chip Carrier, 5 x 5 mm Body, 1.27 mm Pitch; Supplier 1: Digi-Key; Supplier Part Number 1: AD22293Z-ND; Supplier 2: Newark; Supplier Part Number 2: 82T3691; Supplier 3: Mouser; Supplier Part Number 3: 584-AD22293Z; -3dB Bandwidth: 2.5 KHz; Output Type: Analog; Packing: Tube; Mounting Technology: Surface Mount; ComponentLink1Description: Manufacturer URL; ComponentLink1URL: http://www.analog.com/en/index.html; ComponentLink2Description: Datasheet; ComponentLink2URL: http://www.analog.com/static/imported-files/data_sheets/ADXL103_203.pdf; ComponentLink3Description: Package Specification; ComponentLink3URL: http:/www.analog.com/static/imported-files/packages/PKG_PDF/LCC(E)/E_8_1.pdf; ComponentLink4Description: Product URL; ComponentLink4URL: http://www.analog.com/en/mems-sensors/mems-inertial-sensors/adxl203/products/product.html
footprint ADI-E-8-1_V (LCC, 8-Leads, Body 5x5mm, Pitch 1.27mm)
part A pins: 1 ST (in) "Self Test", 3 COM (power) "Common", 6 YOUT (out) "Y Channel Output", 7 XOUT (out) "X Channel Output", 8 VS (power) "3 V to 6 V"
part B pins: 2 NC "Do Not Connect", 4 NC "Do Not Connect", 5 NC "Do Not Connect"

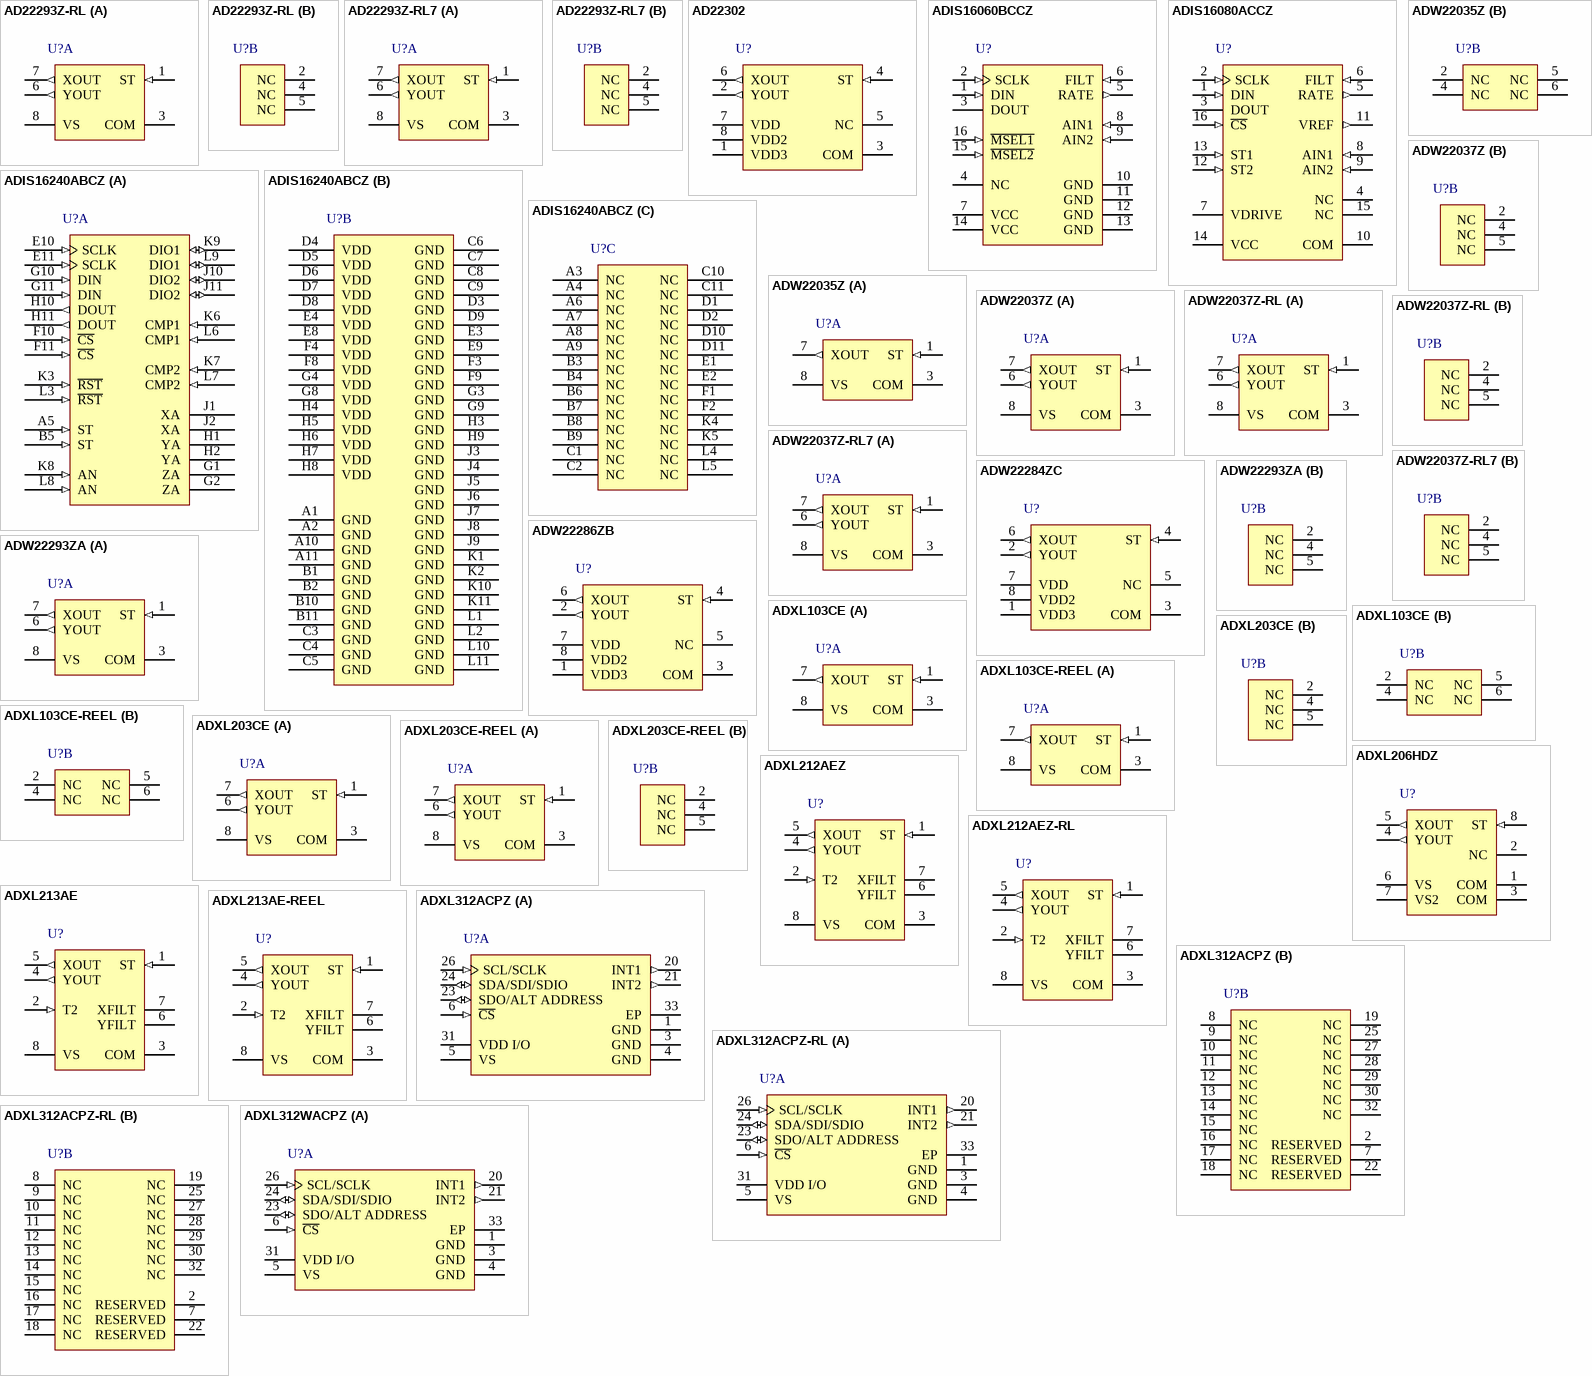
[diagram p1: symbols AD22293Z-RL to ADXL312WACPZ]

## AD22293Z-RL
designator U?
Precision +/-5 g Dual-Axis iMEMS(R) Accelerometer with Analog Output, 2.5KHz BW, Industrial, 8-pin LCC, Reel; Manufacturer: Analog Devices; PartNumber: AD22293Z-RL; # of Axes: 2; Sensitivity: 312 mV/g; Supply Current: 700 uA; Voltage Supply (V): 3 to 6; DatasheetVersion: Rev. D; PackageVersion: 05-21-2010-D, 05/2010; PackageReference: E-8-1; PackageDescription: 8-Pin Ceramic Leadless Chip Carrier, 5 x 5 mm Body, 1.27 mm Pitch; Supplier 1: Digi-Key; Supplier Part Number 1: AD22293Z-RL-ND; Supplier 2: Mouser; Supplier Part Number 2: 584-AD22293Z-R; -3dB Bandwidth: 2.5 KHz; Output Type: Analog; Packing: Reel; Mounting Technology: Surface Mount; ComponentLink1Description: Manufacturer URL; ComponentLink1URL: http://www.analog.com/en/index.html; ComponentLink2Description: Datasheet; ComponentLink2URL: http://www.analog.com/static/imported-files/data_sheets/ADXL103_203.pdf; ComponentLink3Description: Package Specification; ComponentLink3URL: http:/www.analog.com/static/imported-files/packages/PKG_PDF/LCC(E)/E_8_1.pdf; ComponentLink4Description: Product URL; ComponentLink4URL: http://www.analog.com/en/mems-sensors/mems-inertial-sensors/adxl203/products/product.html
footprint ADI-E-8-1_V (LCC, 8-Leads, Body 5x5mm, Pitch 1.27mm)
part A pins: 1 ST (in) "Self Test", 3 COM (power) "Common", 6 YOUT (out) "Y Channel Output", 7 XOUT (out) "X Channel Output", 8 VS (power) "3 V to 6 V"
part B pins: 2 NC "Do Not Connect", 4 NC "Do Not Connect", 5 NC "Do Not Connect"

## AD22293Z-RL7
designator U?
Precision +/-5 g Dual-Axis iMEMS(R) Accelerometer with Analog Output, 2.5KHz BW, Industrial, 8-pin LCC, Reel; Manufacturer: Analog Devices; PartNumber: AD22293Z-RL7; # of Axes: 2; Sensitivity: 312 mV/g; Supply Current: 700 uA; Voltage Supply (V): 3 to 6; DatasheetVersion: Rev. D; PackageVersion: 05-21-2010-D, 05/2010; PackageReference: E-8-1; PackageDescription: 8-Pin Ceramic Leadless Chip Carrier, 5 x 5 mm Body, 1.27 mm Pitch; Supplier 1: Digi-Key; Supplier Part Number 1: AD22293Z-RL7-ND; Supplier 2: Mouser; Supplier Part Number 2: 584-AD22293Z-R7; -3dB Bandwidth: 2.5 KHz; Output Type: Analog; Packing: Reel; Mounting Technology: Surface Mount; ComponentLink1Description: Manufacturer URL; ComponentLink1URL: http://www.analog.com/en/index.html; ComponentLink2Description: Datasheet; ComponentLink2URL: http://www.analog.com/static/imported-files/data_sheets/ADXL103_203.pdf; ComponentLink3Description: Package Specification; ComponentLink3URL: http:/www.analog.com/static/imported-files/packages/PKG_PDF/LCC(E)/E_8_1.pdf; ComponentLink4Description: Product URL; ComponentLink4URL: http://www.analog.com/en/mems-sensors/mems-inertial-sensors/adxl203/products/product.html
footprint ADI-E-8-1_V (LCC, 8-Leads, Body 5x5mm, Pitch 1.27mm)
part A pins: 1 ST (in) "Self Test", 3 COM (power) "Common", 6 YOUT (out) "Y Channel Output", 7 XOUT (out) "X Channel Output", 8 VS (power) "3 V to 6 V"
part B pins: 2 NC "Do Not Connect", 4 NC "Do Not Connect", 5 NC "Do Not Connect"

## AD22302
designator U?
Small, Low Power, Dual-Axis High-g, iMEMS(R) Accelerometer with Analog Output, 400 Hz BW, Industrial, 8-pin LCC, Reel; Manufacturer: Analog Devices; PartNumber: AD22302; DatasheetVersion: Rev. B; PackageVersion: 05-21-2010-D, 05/2010; PackageReference: E-8-1; PackageDescription: 8-Pin Ceramic Leadless Chip Carrier, 5 x 5 mm Body, 1.27 mm Pitch; Supplier 1: Digi-Key; Supplier Part Number 1: AD22302TR-ND; Supplier 2: Digi-Key; Supplier Part Number 2: AD22302CT-ND; Supplier 3: Digi-Key; Supplier Part Number 3: AD22302DKR-ND; Supplier 4: Mouser; Supplier Part Number 4: 584-AD22302; Output Type: Analog; Packing: Reel; Mounting Technology: Surface Mount; ComponentLink1Description: Manufacturer URL; ComponentLink1URL: http://www.analog.com/en/index.html; ComponentLink2Description: Datasheet; ComponentLink2URL: http://www.analog.com/static/imported-files/data_sheets/ADXL278.pdf; ComponentLink3Description: Package Specification; ComponentLink3URL: http:/www.analog.com/static/imported-files/packages/PKG_PDF/LCC(E)/E_8_1.pdf; ComponentLink4Description: Product URL; ComponentLink4URL: http://www.analog.com/en/mems-sensors/mems-inertial-sensors/adxl278/products/product.html
footprint ADI-E-8-1_V (LCC, 8-Leads, Body 5x5mm, Pitch 1.27mm)
pins: 1 VDD3 (power) "3.5 V to 6 V", 2 YOUT (out) "Y Channel Output", 3 COM (power) "Common", 4 ST (in) "Self-Test", 5 NC "Do Not Connect", 6 XOUT (out) "X Channel Output", 7 VDD (power) "3.5 V to 6 V", 8 VDD2 (power) "3.5 V to 6 V"

## ADIS16060BCCZ
designator U?
Wide Bandwidth Yaw Rate Gyroscope with SPI, 1 KHz BW, Industrial, 16-pin LGA, Tray; Manufacturer: Analog Devices; PartNumber: ADIS16060BCCZ; -3dB Bandwidth: 1 KHz; Output Type: Digital; Sensitivity: 0.0122 degrees/s/LSB; Supply Current: 4.3 mA; Voltage Supply (V): 4.75 to 5.25; DatasheetVersion: Rev. A; PackageVersion: 022107-B, 02/2007; PackageReference: CC-16-1; PackageDescription: 16-Pin Stacked Land Grid Array, 8.2 x 8.2 mm Body, 1.67 mm Pitch; Supplier 1: Digi-Key; Supplier Part Number 1: ADIS16060BCCZ-ND; Supplier 2: Newark; Supplier Part Number 2: 71M1607; Supplier 3: Mouser; Supplier Part Number 3: 584-ADIS16060BCCZ; Packing: Tray; Mounting Technology: Surface Mount; ComponentLink1Description: Manufacturer URL; ComponentLink1URL: http://www.analog.com/en/index.html; ComponentLink2Description: Datasheet; ComponentLink2URL: http://www.analog.com/static/imported-files/data_sheets/ADIS16060.pdf; ComponentLink3Description: Package Specification; ComponentLink3URL: http:/www.analog.com/static/imported-files/packages/726059754CC_16_1.pdf; ComponentLink4Description: Product URL; ComponentLink4URL: http://www.analog.com/en/mems-sensors/mems-inertial-sensors/adis16060/products/product.html
footprint ADI-CC-16-1_V (QFN, 16-Leads, Body 8.2x8.2mm, Pitch 1.67mm)
pins: 1 DIN (in) "SPI Data Input.", 2 SCLK (in) "SPI Serial Clock.", 3 DOUT (hiz) "SPI Data Output.", 4 NC "This pin is not connected internally (see Figure 4).", 5 RATE (out) "Buffered Analog Output. Represents the angular rate signal.", 6 FILT (in) "External Capacitor Connection to Control Bandwidth.", 7 VCC (power) "Power Supply.", 8 AIN1 (in) "External Analog Input Channel 1.", 9 AIN2 (in) "External Analog Input Channel 2.", 10 GND (power) "Ground.", 11 GND (power) "Ground.", 12 GND (power) "Ground.", 13 GND (power) "Ground.", 14 VCC (power) "Power Supply.", 15 ~{MSEL2} (in) "SPI, Mode Select 2. User for data input functions.", 16 ~{MSEL1} (in) "SPI, Mode Select 1. Used for data output functions."

## ADIS16080ACCZ
designator U?
+/-80 degrees/s Yaw Rate Gyro with SPI, 40 Hz BW, Industrial, 16-pin LGA, Tray; Manufacturer: Analog Devices; PartNumber: ADIS16080ACCZ; -3dB Bandwidth: 40 Hz; Output Type: Digital; Sensitivity: 0.098 degrees/s/LSB; Supply Current: 7 mA; Voltage Supply (V): 4.75 to 5.25; DatasheetVersion: Rev. C; PackageVersion: 022107-B, 02/2007; PackageReference: CC-16-1; PackageDescription: 16-Pin Stacked Land Grid Array, 8.2 x 8.2 mm Body, 1.67 mm Pitch; Supplier 1: Digi-Key; Supplier Part Number 1: ADIS16080ACCZ-ND; Supplier 2: Farnell; Supplier Part Number 2: 2124994; Supplier 3: Newark; Supplier Part Number 3: 28M3651; Supplier 4: Mouser; Supplier Part Number 4: 584-ADIS16080ACCZ; Packing: Tray; Mounting Technology: Surface Mount; ComponentLink1Description: Manufacturer URL; ComponentLink1URL: http://www.analog.com/en/index.html; ComponentLink2Description: Datasheet; ComponentLink2URL: http://www.analog.com/static/imported-files/data_sheets/ADIS16080.pdf; ComponentLink3Description: Package Specification; ComponentLink3URL: http:/www.analog.com/static/imported-files/packages/726059754CC_16_1.pdf; ComponentLink4Description: Product URL; ComponentLink4URL: http://www.analog.com/en/mems-sensors/mems-inertial-sensors/adis16080/products/product.html
footprint ADI-CC-16-1_V (QFN, 16-Leads, Body 8.2x8.2mm, Pitch 1.67mm)
pins: 1 DIN (in) "SPI Data Input.", 2 SCLK (in) "SPI Serial Clock.", 3 DOUT (hiz) "SPI Data Output.", 4 NC "No Connect.", 5 RATE (out) "Buffered Analog Output. Represents the angular rate signal.", 6 FILT (in) "External Capacitor Connection to Control Bandwidth.", 7 VDRIVE (power) "SPI Power Supply. This can be the receive processing circuit’s supply to simplify interfacing.", 8 AIN1 (in) "External Analog Input Channel 1. See ADD0 and ADD1 address bits in Table 5.", 9 AIN2 (in) "External Analog Input Channel 2. See ADD0 and ADD1 address bits in Table 5.", 10 COM (power) "Common. Reference point for all circuitry in the ADIS16080.", 11 VREF (out) "Precision 2.5 V Reference.", 12 ST2 (in) "Self-Test Input 2.", 13 ST1 (in) "Self-Test Input 1.", 14 VCC (power) "Analog Power.", 15 NC "No Connect.", 16 ~{CS} (in) "Chip Select. Active low. This input frames the serial data transfer and initiates the conversion process."